# Altium footprint library CONN PWR JACK.PcbLib: 1 footprints
Each footprint in its own frame and in the unit in brackets; x right, y up, seen from the top. Pads: shape width x height; smd on the part's side, far side on the other; paste and mask are expansions set on the pad; w line width, h text height; cw(c..) or ccw(c..) is an arc to the next point about the centre after c.
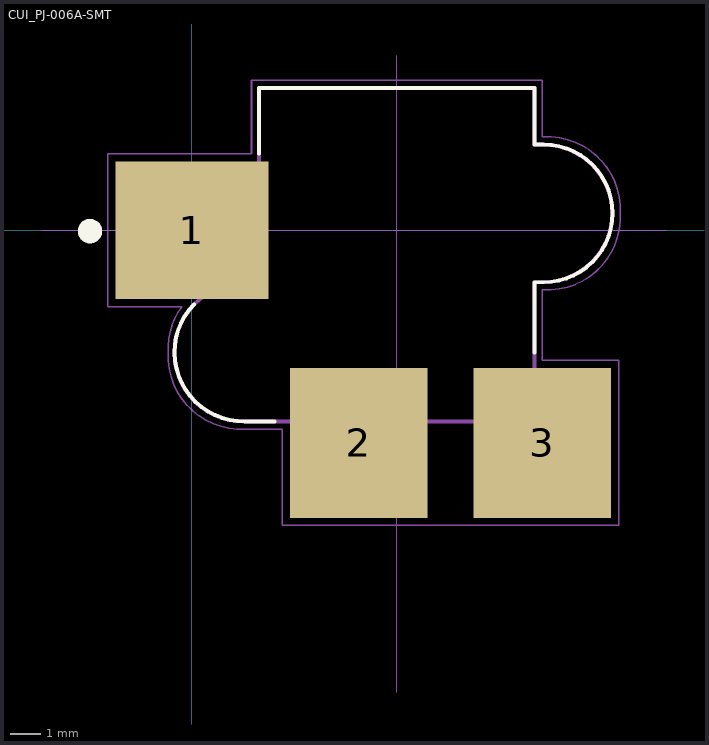
[diagram p0: the footprint, top view; thin cyan lines are the x and y axes]

## CUI_PJ-006A-SMT [mm]
pads (3):
  rect 5x4.5 smd: 1(0,0)
  rect 4.5x4.9 smd: 2(5.45,-6.95) 3(11.45,-6.95)
Top Overlay:
  circle w0.4: c-3.33,-0.03 r0.2
  lines w0.127: -0.57,-4.015 ccw(c1.705,-3.975) 1.745,-6.25 ; -0.57,-3.988 cw(c1.645,-3.988) 0.079,-2.421 ; 1.73,-6.25 2.7,-6.25 ; 2.2,2.5 2.2,4.65 11.2,4.65 11.2,2.8 11.5,2.8 cw(c11.5,0.55) 13.75,0.55 cw(c11.5,0.55) 11.5,-1.7 11.2,-1.7 11.2,-4
Mechanical 13:
  lines w0.025: -4.9,0 15.5,0 ; 6.7,-15.1 6.7,5.7
  lines w0.127: 11.435,-1.7 ccw(c11.475,0.575) 13.75,0.535 ; 11.435,2.8 cw(c11.475,0.525) 13.75,0.565 ; 11.45,-1.7 11.2,-1.7 11.2,-6.25 1.68,-6.25 cw(c1.68,-4) -0.57,-4 cw(c1.68,-4) 1.68,-1.75 2.2,-1.75 2.2,4.65 11.2,4.65 11.2,2.8 11.45,2.8
Mechanical 15:
  lines w0.05: 1.475,-6.5 2.95,-6.5 2.95,-9.65 13.95,-9.65 13.95,-4.25 11.45,-4.25 11.45,-1.95 11.75,-1.95 ccw(c11.625,0.425) 14,0.549 ccw(c11.625,0.675) 11.749,3.05 11.45,3.05 11.45,4.9 1.95,4.9 1.95,2.5 -2.75,2.5 -2.75,-2.5 -0.325,-2.5 ccw(c1.458,-3.845) -0.77,-4.001 ccw(c1.605,-4.125) 1.481,-6.5